# Altium footprint library harting.PcbLib: 1 footprints
Each footprint in its own frame and in the unit in brackets; x right, y up, seen from the top. Pads: shape width x height; smd on the part's side, far side on the other; paste and mask are expansions set on the pad; w line width, h text height; cw(c..) or ccw(c..) is an arc to the next point about the centre after c.
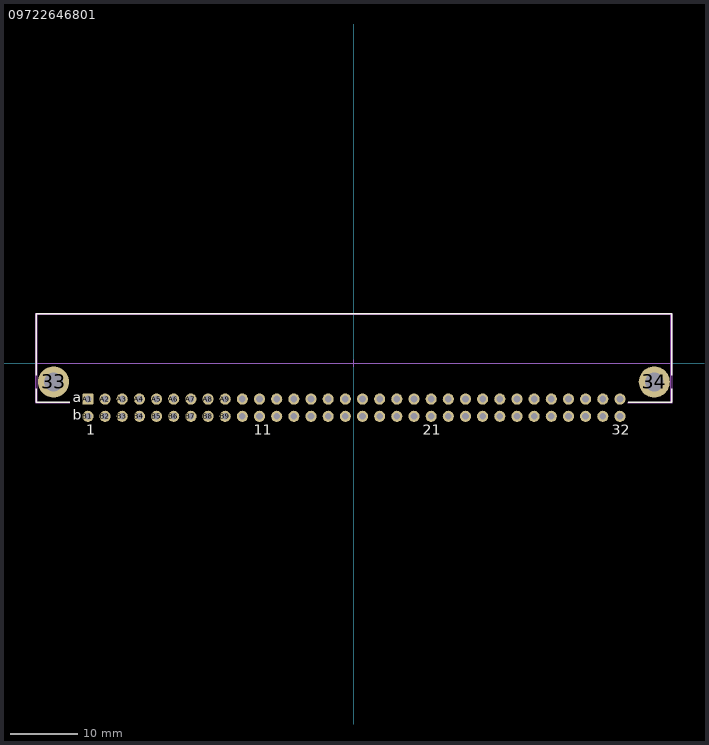
[diagram p0: the footprint, top view; thin cyan lines are the x and y axes]

## 09722646801 [mm] "64 Position Din Connector Receptacle, Female Sockets Gold Through Hole, Right Angle"
height 8.6
pads (66):
  round 4.6 hole 2.8: 33(-44.45,-2.76) 34(44.45,-2.76)
  rrect20% 1.65x1.65 hole 1: A1(-39.37,-5.3)
  round 1.65 hole 1: A2(-36.83,-5.3) A3(-34.29,-5.3) A4(-31.75,-5.3) A5(-29.21,-5.3) A6(-26.67,-5.3) A7(-24.13,-5.3) A8(-21.59,-5.3) A9(-19.05,-5.3) A10(-16.51,-5.3) A11(-13.97,-5.3) A12(-11.43,-5.3) A13(-8.89,-5.3) A14(-6.35,-5.3) A15(-3.81,-5.3) A16(-1.27,-5.3) A17(1.27,-5.3) A18(3.81,-5.3) A19(6.35,-5.3) A20(8.89,-5.3) A21(11.43,-5.3) A22(13.97,-5.3) A23(16.51,-5.3) A24(19.05,-5.3) A25(21.59,-5.3) A26(24.13,-5.3) A27(26.67,-5.3) A28(29.21,-5.3) A29(31.75,-5.3) A30(34.29,-5.3) A31(36.83,-5.3) A32(39.37,-5.3) B1(-39.37,-7.84) B2(-36.83,-7.84) B3(-34.29,-7.84) B4(-31.75,-7.84) B5(-29.21,-7.84) B6(-26.67,-7.84) B7(-24.13,-7.84) B8(-21.59,-7.84) B9(-19.05,-7.84) B10(-16.51,-7.84) B11(-13.97,-7.84) B12(-11.43,-7.84) B13(-8.89,-7.84) B14(-6.35,-7.84) B15(-3.81,-7.84) B16(-1.27,-7.84) B17(1.27,-7.84) B18(3.81,-7.84) B19(6.35,-7.84) B20(8.89,-7.84) B21(11.43,-7.84) B22(13.97,-7.84) B23(16.51,-7.84) B24(19.05,-7.84) B25(21.59,-7.84) B26(24.13,-7.84) B27(26.67,-7.84) B28(29.21,-7.84) B29(31.75,-7.84) B30(34.29,-7.84) B31(36.83,-7.84) B32(39.37,-7.84)
Top Overlay:
  lines w0.2: -47,-3.76 -47,-5.8 -42.07,-5.8 ; -47,-1.76 -47,7.34 47,7.34 47,-1.76 ; 40.595,-5.8 47,-5.8 47,-3.76
  text "1" at -39.62,-10.54 h1.5
  text "a" at -41.58,-5.8 h1.5
  text "b" at -41.58,-8.34 h1.5
  text "32" at 38.12,-10.54 h1.5
  text "11" at -14.845,-10.54 h1.5
  text "21" at 10.18,-10.54 h1.5
M1_3D_TOP:
  lines w0.1: -47,0 47,0
  text "PCB Edge" at -46.47,0.5 h0.6
M3_comm_top:
  text ".comment" at -1.6,-0.2 h1
M5_asm_top:
  lines w0.1: -42.025,-5.775 -46.875,-5.775 -46.875,7.225 46.925,7.225 46.925,-5.825 46.9,-5.8 40.55,-5.8
  text ".Designator" at -1.9,7.625 h1
M7_courtyard_top:
  lines w0.1: -42.025,-5.825 -43.288,-5.825 -45.813,-5.825 -47.075,-5.825 -47.075,7.375 47.1,7.375 47.1,-5.85 40.525,-5.85 ; -0.5,0 0.5,0 ; 0,-0.5 0,0.5
3D body "din_41612_female_q-64abr.stp": height 7.15, standoff -2.9, extent -47.02,-8.125 46.98,7.445